# Altium footprint library M2.PcbLib: 1 footprints
Each footprint in its own frame and in the unit in brackets; x right, y up, seen from the top. Pads: shape width x height; smd on the part's side, far side on the other; paste and mask are expansions set on the pad; w line width, h text height; cw(c..) or ccw(c..) is an arc to the next point about the centre after c.
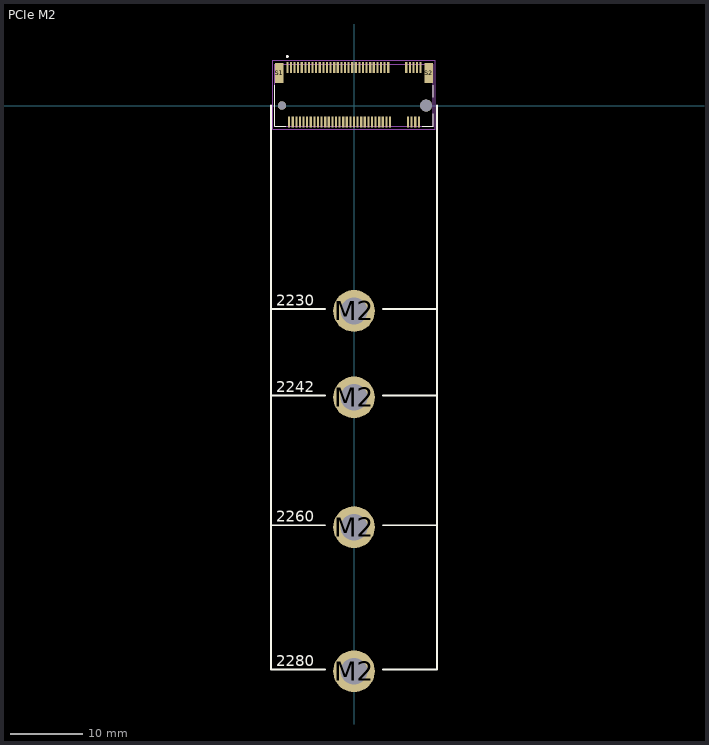
[diagram p0: the footprint, top view; thin cyan lines are the x and y axes]

## PCIe M2 [mm] "M key"
height 3.2
pads (75):
  rect 0.3x1.55 smd: 1(-9.25,5.275) 2(-9,-2.275) 3(-8.75,5.275) 4(-8.5,-2.275) 5(-8.25,5.275) 6(-8,-2.275) 7(-7.75,5.275) 8(-7.5,-2.275) 9(-7.25,5.275) 10(-7,-2.275) 11(-6.75,5.275) 12(-6.5,-2.275) 13(-6.25,5.275) 14(-6,-2.275) 15(-5.75,5.275) 16(-5.5,-2.275) 17(-5.25,5.275) 18(-5,-2.275) 19(-4.75,5.275) 20(-4.5,-2.275) 21(-4.25,5.275) 22(-4,-2.275) 23(-3.75,5.275) 24(-3.5,-2.275) 25(-3.25,5.275) 26(-3,-2.275) 27(-2.75,5.275) 28(-2.5,-2.275) 29(-2.25,5.275) 30(-2,-2.275) 31(-1.75,5.275) 32(-1.5,-2.275) 33(-1.25,5.275) 34(-1,-2.275) 35(-0.75,5.275) 36(-0.5,-2.275) 37(-0.25,5.275) 38(0,-2.275) 39(0.25,5.275) 40(0.5,-2.275) 41(0.75,5.275) 42(1,-2.275) 43(1.25,5.275) 44(1.5,-2.275) 45(1.75,5.275) 46(2,-2.275) 47(2.25,5.275) 48(2.5,-2.275) 49(2.75,5.275) 50(3,-2.275) 51(3.25,5.275) 52(3.5,-2.275) 53(3.75,5.275) 54(4,-2.275) 55(4.25,5.275) 56(4.5,-2.275) 57(4.75,5.275) 58(5,-2.275) 67(7.25,5.275) 68(7.5,-2.275) 69(7.75,5.275) 70(8,-2.275) 71(8.25,5.275) 72(8.5,-2.275) 73(8.75,5.275) 74(9,-2.275) 75(9.25,5.275)
  round 5.8 hole 3.7: M2(0,-78.5) M2(0,-58.5) M2(0,-40.5) M2(0,-28.5)
  rect 1.2x2.75 smd: S1(-10.35,4.5) S2(10.35,4.5)
  round 1.15 hole 1.15 unplated: ""(-10,0)
  round 1.65 hole 1.65 unplated: ""(10,0)
Top Overlay:
  circle w0.2: c-9.25,6.796 r0.1
  lines w0.127: -11,2.805 -11,-2.85 -9.47,-2.85 ; 9.47,-2.85 11,-2.85 11,-1.145 ; 11,1.145 11,2.805
  lines w0.25: -11.5,-58.25 -4,-58.25 ; -11.5,-40.25 -4,-40.25 ; -11.5,-28.25 -4,-28.25 ; -11.5,0 -11.5,-78.25 -4,-78.25 ; 4,-78.25 11.5,-78.25 11.5,0 ; 4,-58.25 11.5,-58.25 ; 4,-40.25 11.5,-40.25 ; 4,-28.25 11.5,-28.25
  text "2280" at -10.821,-77.771 h1.52
  text "2260" at -10.821,-57.771 h1.52
  text "2230" at -10.821,-27.771 h1.52
  text "2242" at -10.821,-39.771 h1.52
Assembly Top:
  circle w0.2: c-9.25,6.796 r0.1
  lines w0.127: -11,-2.85 -11,5.7 11,5.7 11,-2.85 -11,-2.85
Courtyard Top:
  lines w0.05: -11.25,-3.3 11.25,-3.3 11.25,6.3 -11.25,6.3 -11.25,-3.3
3D body "step_temp.STEP": height 3.2, standoff -0.6, extent -11,-2.85 11,5.7